# Altium footprint library DWKLib.PcbLib: 2 footprints
Each footprint in its own frame and in the unit in brackets; x right, y up, seen from the top. Pads: shape width x height; smd on the part's side, far side on the other; paste and mask are expansions set on the pad; w line width, h text height; cw(c..) or ccw(c..) is an arc to the next point about the centre after c.
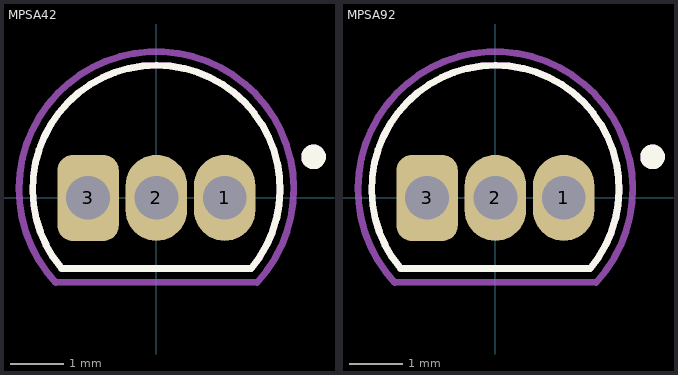
[diagram p0: the footprints below, top view; thin cyan lines are the x and y axes]

## MPSA42 [mil] "300V NPN Transistor, Complementary to MPSA92"
pads (3):
  oval 45x63 hole 32: 1(50,0) 2(0,0)
  rrect50% 45x63 hole 32: 3(-50,0)
Top Overlay:
  circle w10: c115,30 r4
  lines w5: -69.37,-51.72 cw(c0,6.49) 69.37,-51.72 -69.37,-51.72
Top Assembly:
  circle w10: c115,30 r4
  lines w5: -69.37,-51.72 cw(c0,6.49) 69.37,-51.72 -69.37,-51.72
Top Courtyard:
  lines w5: -73.64,-61.98 cw(c0,6.49) 73.64,-61.98 ; -73.36,-61.72 73.36,-61.72
Top Component Center:
  lines w5: -20,0 20,0 ; 0,-20 0,20
3D body "TO-92.STEP": height 284.84, standoff -539.96, extent -93.35,-56.26 93.35,86.26

## MPSA92 [mil] "300V PNP Transistor, Complementary to MPSA42"
pads (3):
  oval 45x63 hole 32: 1(50,0) 2(0,0)
  rrect50% 45x63 hole 32: 3(-50,0)
Top Overlay:
  circle w10: c115,30 r4
  lines w5: -69.37,-51.72 cw(c0,6.49) 69.37,-51.72 -69.37,-51.72
Top Assembly:
  circle w10: c115,30 r4
  lines w5: -69.37,-51.72 cw(c0,6.49) 69.37,-51.72 -69.37,-51.72
Top Courtyard:
  lines w5: -73.64,-61.98 cw(c0,6.49) 73.64,-61.98 ; -73.36,-61.72 73.36,-61.72
Top Component Center:
  lines w5: -20,0 20,0 ; 0,-20 0,20
3D body "TO-92.STEP": height 284.84, standoff -539.96, extent -93.35,-56.26 93.35,86.26